# Altium schematic symbol library LTC1861IMS#PBF.SchLib: 1 symbol
Pins are listed as number, name and electrical type; pins without a type are passive.

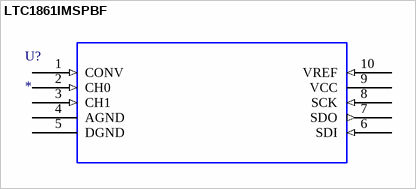
[diagram p0: symbol LTC1861IMSPBF]

## LTC1861IMSPBF
designator U?
MF: {'manufacturer': u'Analog Devices'}; MP: LTC1861IMSPBF; Price: None; Value: *; Availability: Unavailable; Package: None
footprint MSOP-10_MS
pins: 1 CONV (in), 2 CH0 (in), 3 CH1 (in), 4 AGND (power), 5 DGND (power), 6 SDI (in), 7 SDO (out), 8 SCK (in), 9 VCC (power), 10 VREF (in)